# Altium schematic symbol library WE-LQFS_3818.SchLib: 10 symbols
Pins are listed as number, name and electrical type; pins without a type are passive.

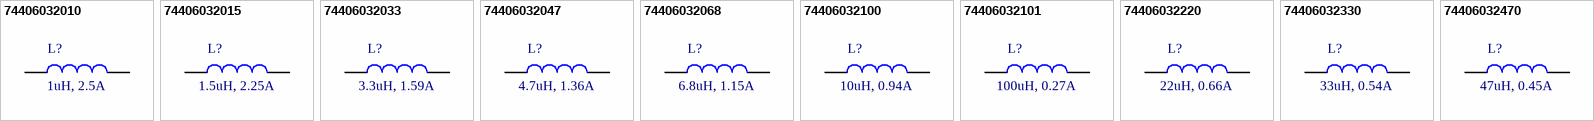
[diagram p0: symbols 74406032010 to 74406032470]

## 74406032010
designator L?, comment 1uH, 2.5A
WE-LQFS SMT Power Inductor, size 3818, 1uH, 2.5A; Manufacturer: Wurth Elektronik; Manufacturer Part Number: 74406032010; Self Resonant Frequency: 264MHz; DC Resistance typ.: 26mOhm; DC Resistance max.: 31mOhm; Saturation Current: 2.15A; ComponentLink1Description: Manufacturer; ComponentLink1URL: http://www.we-online.de; ComponentLink2Description: Datasheet; ComponentLink2URL: https://www.we-online.com/catalog/datasheet/74406032010.pdf; Mounting Technology: SMT; Operating Temperature: -40 to +125degC; Packaging: Tape and Reel; Published Date: April 2020; Inductance: 1uH; Rated Current: 2.5A; Size: 3818
footprint WE-LQFS_3818
pins: 1, 2

## 74406032015
designator L?, comment 1.5uH, 2.25A
WE-LQFS SMT Power Inductor, size 3818, 1.5uH, 2.25A; Manufacturer: Wurth Elektronik; Manufacturer Part Number: 74406032015; Self Resonant Frequency: 215MHz; DC Resistance typ.: 32mOhm; DC Resistance max.: 39mOhm; Saturation Current: 1.92A; ComponentLink1Description: Manufacturer; ComponentLink1URL: http://www.we-online.de; ComponentLink2Description: Datasheet; ComponentLink2URL: https://www.we-online.com/catalog/datasheet/74406032015.pdf; Mounting Technology: SMT; Operating Temperature: -40 to +125degC; Packaging: Tape and Reel; Published Date: April 2020; Inductance: 1.5uH; Rated Current: 2.25A; Size: 3818
footprint WE-LQFS_3818
pins: 1, 2

## 74406032033
designator L?, comment 3.3uH, 1.59A
WE-LQFS SMT Power Inductor, size 3818, 3.3uH, 1.59A; Manufacturer: Wurth Elektronik; Manufacturer Part Number: 74406032033; Self Resonant Frequency: 132MHz; DC Resistance typ.: 64mOhm; DC Resistance max.: 77mOhm; Saturation Current: 1.31A; ComponentLink1Description: Manufacturer; ComponentLink1URL: http://www.we-online.de; ComponentLink2Description: Datasheet; ComponentLink2URL: https://www.we-online.com/catalog/datasheet/74406032033.pdf; Mounting Technology: SMT; Operating Temperature: -40 to +125degC; Packaging: Tape and Reel; Published Date: April 2020; Inductance: 3.3uH; Rated Current: 1.59A; Size: 3818
footprint WE-LQFS_3818
pins: 1, 2

## 74406032047
designator L?, comment 4.7uH, 1.36A
WE-LQFS SMT Power Inductor, size 3818, 4.7uH, 1.36A; Manufacturer: Wurth Elektronik; Manufacturer Part Number: 74406032047; Self Resonant Frequency: 99MHz; DC Resistance typ.: 92mOhm; DC Resistance max.: 110mOhm; Saturation Current: 1.07A; ComponentLink1Description: Manufacturer; ComponentLink1URL: http://www.we-online.de; ComponentLink2Description: Datasheet; ComponentLink2URL: https://www.we-online.com/catalog/datasheet/74406032047.pdf; Mounting Technology: SMT; Operating Temperature: -40 to +125degC; Packaging: Tape and Reel; Published Date: April 2020; Inductance: 4.7uH; Rated Current: 1.36A; Size: 3818
footprint WE-LQFS_3818
pins: 1, 2

## 74406032068
designator L?, comment 6.8uH, 1.15A
WE-LQFS SMT Power Inductor, size 3818, 6.8uH, 1.15A; Manufacturer: Wurth Elektronik; Manufacturer Part Number: 74406032068; Self Resonant Frequency: 81MHz; DC Resistance typ.: 127mOhm; DC Resistance max.: 153mOhm; Saturation Current: 0.88A; ComponentLink1Description: Manufacturer; ComponentLink1URL: http://www.we-online.de; ComponentLink2Description: Datasheet; ComponentLink2URL: https://www.we-online.com/catalog/datasheet/74406032068.pdf; Mounting Technology: SMT; Operating Temperature: -40 to +125degC; Packaging: Tape and Reel; Published Date: April 2020; Inductance: 6.8uH; Rated Current: 1.15A; Size: 3818
footprint WE-LQFS_3818
pins: 1, 2

## 74406032100
designator L?, comment 10uH, 0.94A
WE-LQFS SMT Power Inductor, size 3818, 10uH, 0.94A; Manufacturer: Wurth Elektronik; Manufacturer Part Number: 74406032100; Self Resonant Frequency: 66MHz; DC Resistance typ.: 190mOhm; DC Resistance max.: 228mOhm; Saturation Current: 0.75A; ComponentLink1Description: Manufacturer; ComponentLink1URL: http://www.we-online.de; ComponentLink2Description: Datasheet; ComponentLink2URL: https://www.we-online.com/catalog/datasheet/74406032100.pdf; Mounting Technology: SMT; Operating Temperature: -40 to +125degC; Packaging: Tape and Reel; Published Date: April 2020; Inductance: 10uH; Rated Current: 0.94A; Size: 3818
footprint WE-LQFS_3818
pins: 1, 2

## 74406032101
designator L?, comment 100uH, 0.27A
WE-LQFS SMT Power Inductor, size 3818, 100uH, 0.27A; Manufacturer: Wurth Elektronik; Manufacturer Part Number: 74406032101; Self Resonant Frequency: 17MHz; DC Resistance typ.: 2064mOhm; DC Resistance max.: 2476mOhm; Saturation Current: 0.22A; ComponentLink1Description: Manufacturer; ComponentLink1URL: http://www.we-online.de; ComponentLink2Description: Datasheet; ComponentLink2URL: https://www.we-online.com/catalog/datasheet/74406032101.pdf; Mounting Technology: SMT; Operating Temperature: -40 to +125degC; Packaging: Tape and Reel; Published Date: April 2020; Inductance: 100uH; Rated Current: 0.27A; Size: 3818
footprint WE-LQFS_3818
pins: 1, 2

## 74406032220
designator L?, comment 22uH, 0.66A
WE-LQFS SMT Power Inductor, size 3818, 22uH, 0.66A; Manufacturer: Wurth Elektronik; Manufacturer Part Number: 74406032220; Self Resonant Frequency: 37MHz; DC Resistance typ.: 401mOhm; DC Resistance max.: 481mOhm; Saturation Current: 0.46A; ComponentLink1Description: Manufacturer; ComponentLink1URL: http://www.we-online.de; ComponentLink2Description: Datasheet; ComponentLink2URL: https://www.we-online.com/catalog/datasheet/74406032220.pdf; Mounting Technology: SMT; Operating Temperature: -40 to +125degC; Packaging: Tape and Reel; Published Date: April 2020; Inductance: 22uH; Rated Current: 0.66A; Size: 3818
footprint WE-LQFS_3818
pins: 1, 2

## 74406032330
designator L?, comment 33uH, 0.54A
WE-LQFS SMT Power Inductor, size 3818, 33uH, 0.54A; Manufacturer: Wurth Elektronik; Manufacturer Part Number: 74406032330; Self Resonant Frequency: 30MHz; DC Resistance typ.: 596mOhm; DC Resistance max.: 715mOhm; Saturation Current: 0.4A; ComponentLink1Description: Manufacturer; ComponentLink1URL: http://www.we-online.de; ComponentLink2Description: Datasheet; ComponentLink2URL: https://www.we-online.com/catalog/datasheet/74406032330.pdf; Mounting Technology: SMT; Operating Temperature: -40 to +125degC; Packaging: Tape and Reel; Published Date: April 2020; Inductance: 33uH; Rated Current: 0.54A; Size: 3818
footprint WE-LQFS_3818
pins: 1, 2

## 74406032470
designator L?, comment 47uH, 0.45A
WE-LQFS SMT Power Inductor, size 3818, 47uH, 0.45A; Manufacturer: Wurth Elektronik; Manufacturer Part Number: 74406032470; Self Resonant Frequency: 25MHz; DC Resistance typ.: 834mOhm; DC Resistance max.: 1000mOhm; Saturation Current: 0.34A; ComponentLink1Description: Manufacturer; ComponentLink1URL: http://www.we-online.de; ComponentLink2Description: Datasheet; ComponentLink2URL: https://www.we-online.com/catalog/datasheet/74406032470.pdf; Mounting Technology: SMT; Operating Temperature: -40 to +125degC; Packaging: Tape and Reel; Published Date: April 2020; Inductance: 47uH; Rated Current: 0.45A; Size: 3818
footprint WE-LQFS_3818
pins: 1, 2